# Altium schematic symbol library SBridge.SchLib: 1 symbol
Pins are listed as number, name and electrical type; pins without a type are passive.

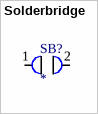
[diagram p0: symbol Solderbridge]

## Solderbridge
designator SB?
footprint SolderBridge
pins: 1, 2